# Altium footprint library LED_PcbLib.PcbLib: 3 footprints
Each footprint in its own frame and in the unit in brackets; x right, y up, seen from the top. Pads: shape width x height; smd on the part's side, far side on the other; paste and mask are expansions set on the pad; w line width, h text height; cw(c..) or ccw(c..) is an arc to the next point about the centre after c.
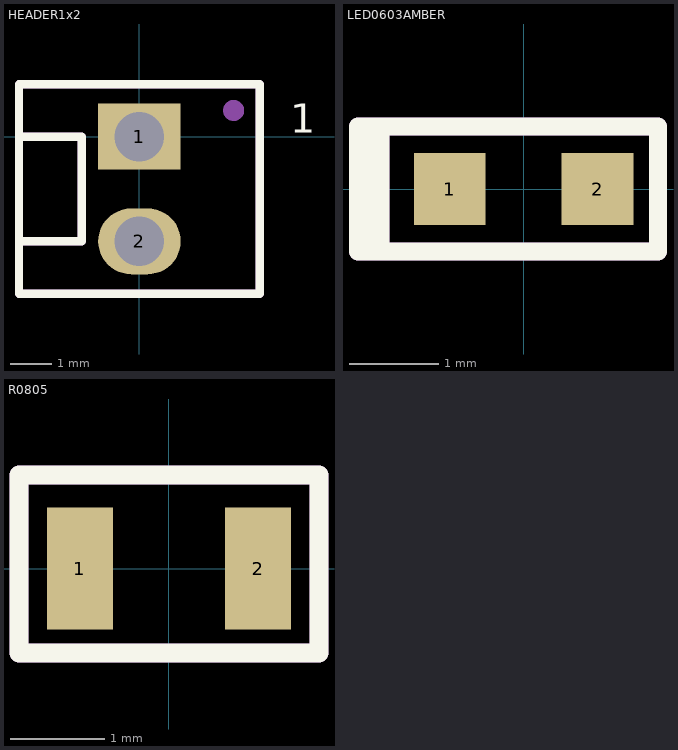
[diagram p0: the footprints below, top view; thin cyan lines are the x and y axes]

## HEADER1x2 [mm]
pads (2):
  rect 2x1.6 / inner rect 2x1.2 / far side rect 2x1.6 hole 1.2: 1(0,0)
  oval 2x1.6 / inner oval 2x1.2 / far side oval 2x1.6 hole 1.2: 2(0,-2.54)
Top Overlay:
  lines w0.2: -2.921,-2.54 -1.397,-2.54 -1.397,0 -2.921,0 ; -2.921,-3.81 -1.46,-3.81 1.46,-3.81 2.921,-3.81 2.921,1.27 -2.921,1.27 -2.921,-3.81
  text "1" at 3.656,0.1 h0.7
Mechanical 29:
  circle w0.254: c2.286,0.635 r0.127
  lines w0.2: -2.921,-2.54 -1.397,-2.54 -1.397,0 -2.921,0 ; -2.921,-3.81 -1.46,-3.81 1.46,-3.81 2.921,-3.81 2.921,1.27 -2.921,1.27 -2.921,-3.81
  text "'.Designator'" at -0.943,-2.067 h1.2
3D body "022292021.stp": height 11.71, standoff -3.55, extent -2.879,-3.81 2.921,1.27

## LED0603AMBER [mm]
pads (2):
  rect 0.8x0.8 smd: 1(-0.825,0) 2(0.825,0)
Top Overlay:
  rectangle: -1.85,-0.7 -1.5,0.7
  rectangle: -1.85,-0.7 -1.5,0.7
  lines w0.2: -1.85,-0.7 -1.85,0 ; -1.85,-0.7 1.5,-0.7 ; -1.85,-0.7 -1.85,0 ; -1.85,-0.7 1.5,-0.7 ; -1.85,0 -1.85,0.7 ; -1.85,0 -1.85,0.7 ; -1.85,0.7 1.5,0.7 ; -1.85,0.7 1.5,0.7 ; 1.5,-0.7 1.5,0.7 ; 1.5,-0.7 1.5,0.7
Mechanical 29:
  rectangle: -1.85,-0.7 -1.5,0.7
  rectangle: -1.85,-0.7 -1.5,0.7
  lines w0.2: -1.85,-0.7 -1.85,0 ; -1.85,-0.7 1.5,-0.7 ; -1.85,-0.7 -1.85,0 ; -1.85,-0.7 1.5,-0.7 ; -1.85,0 -1.85,0.7 ; -1.85,0 -1.85,0.7 ; -1.85,0.7 1.5,0.7 ; -1.85,0.7 1.5,0.7 ; 1.5,-0.7 1.5,0.7 ; 1.5,-0.7 1.5,0.7
  text "'.Designator'" at -1.2,-0.367 h0.7
3D body "LED_LNJ_PAN.step": height 0.42, standoff 0, extent -0.825,-0.478 0.925,0.478

## R0805 [mm]
pads (2):
  rect 0.7x1.3 smd: 1(-0.95,0) 2(0.95,0)
Top Overlay:
  lines w0.2: -1.6,-0.9 1.6,-0.9 1.6,1 -1.6,1 -1.6,-0.85 -1.6,-0.9
Mechanical 29:
  lines w0.2: -1.6,-0.9 1.6,-0.9 1.6,1 -1.6,1 -1.6,-0.85 -1.6,-0.9
  text "'.Designator'" at -1.2,-0.267 h0.7
3D body "RC0805N.step": height 0.71, standoff 0, extent -1,-0.6 1,0.6